# Altium footprint library MergenElektronik_Connectors_IDCConnectors.PcbLib: 1 footprints
Each footprint in its own frame and in the unit in brackets; x right, y up, seen from the top. Pads: shape width x height; smd on the part's side, far side on the other; paste and mask are expansions set on the pad; w line width, h text height; cw(c..) or ccw(c..) is an arc to the next point about the centre after c.
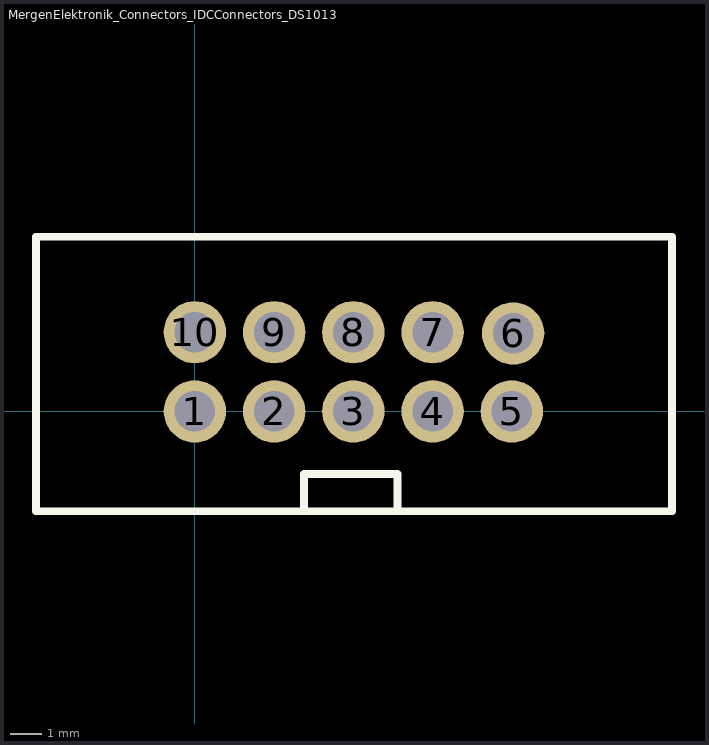
[diagram p0: the footprint, top view; thin cyan lines are the x and y axes]

## MergenElektronik_Connectors_IDCConnectors_DS1013-10SSIB1 [mm] "DS1013-10SSIB1"
pads (10):
  round 2 hole 1.3: 1(0,0) 2(2.54,0) 3(5.08,0) 4(7.62,0) 5(10.16,0) 6(10.2,2.5) 7(7.62,2.54) 8(5.08,2.54) 9(2.54,2.54) 10(0,2.54)
Top Overlay:
  lines w0.254: 3.5,-3.2 3.5,-2 6.5,-2 6.5,-3.2 ; -5.1,-3.2 15.3,-3.2 15.3,5.6 -5.1,5.6 -5.1,-3.2
3D body: height 9, standoff -3.6, extent -5.17,-3.23 15.33,5.67